# Altium integrated library ASA-26.000MHZ-L-T.IntLib: 1 symbol
Pins are listed as number, name and electrical type; pins without a type are passive.

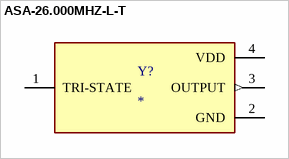
[diagram p0: symbol ASA-26.000MHZ-L-T]

## ASA-26.000MHZ-L-T
designator Y?
MP: ASA-26.000MHZ-L-T; Availability: Unavailable; Price: None; Package: None; Value: *
footprint XTAL_ASA-26.000MHZ-L-T
pins: 1 TRI-STATE, 2 GND (power), 3 OUTPUT (out), 4 VDD (power)